# Altium footprint library LMZM23601V5SILR.PcbLib: 1 footprints
Each footprint in its own frame and in the unit in brackets; x right, y up, seen from the top. Pads: shape width x height; smd on the part's side, far side on the other; paste and mask are expansions set on the pad; w line width, h text height; cw(c..) or ccw(c..) is an arc to the next point about the centre after c.
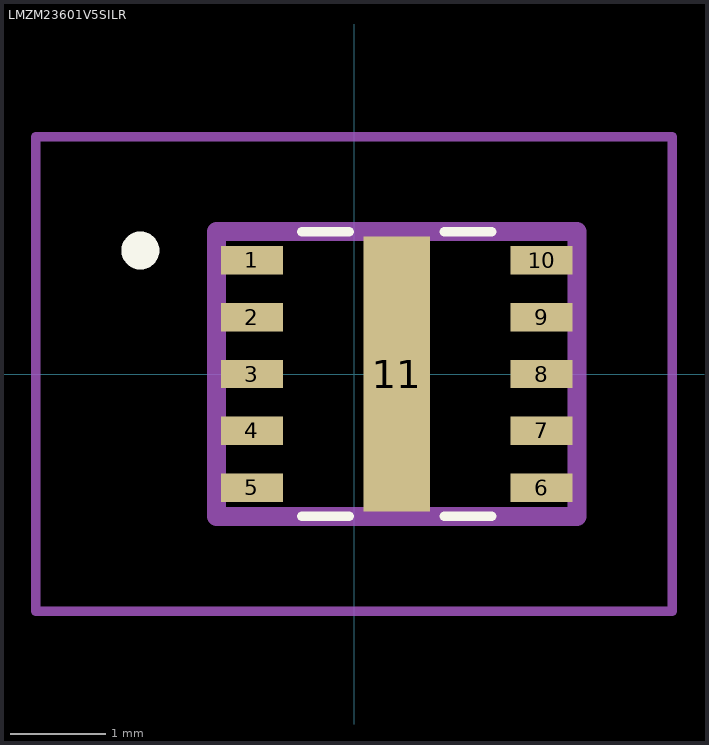
[diagram p0: the footprint, top view; thin cyan lines are the x and y axes]

## LMZM23601V5SILR [mm]
pads (11):
  rect 0.65x0.3 smd: 1(-1.075,1.2) 2(-1.075,0.6) 3(-1.075,0) 4(-1.075,-0.6) 5(-1.075,-1.2) 6(1.975,-1.2) 7(1.975,-0.6) 8(1.975,0) 9(1.975,0.6) 10(1.975,1.2)
  rect 0.7x2.9 smd: 11(0.45,0)
Top Overlay:
  lines w0.1: -0.55,-1.5 -0.05,-1.5 ; -0.55,1.5 -0.05,1.5 ; 0.95,-1.5 1.45,-1.5 ; 0.95,1.5 1.45,1.5
  lines w0.2: -2.25,1.2 ccw(c-2.25,1.3) -2.25,1.4 ccw(c-2.25,1.3) -2.25,1.2
Mechanical 15:
  lines w0.2: -1.45,-1.5 -1.45,1.5 2.35,1.5 2.35,-1.5 -1.45,-1.5
Mechanical 20:
  lines w0.1: -3.35,-2.5 -3.35,2.5 3.35,2.5 3.35,-2.5 -3.35,-2.5
3D body "LMZM23600V5SILR.stp": height 1.49, standoff 0, extent -1.443,-1.5 2.357,1.5